# Altium schematic symbol library GaN HEMT.SchLib: 1 symbol
Pins are listed as number, name and electrical type; pins without a type are passive.

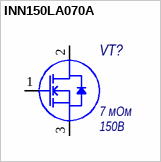
[diagram p0: symbol INN150LA070A]

## INN150LA070A
designator VT?  Vds: 150В  Rdson: 7 мОм  (hidden comment: *)
GaN N-Channel HEMT Low voltage FET; ID: INN150LA070A
footprint FCLGA3.2*2.2 (INN150LA070A)
pins: 1 Gate, 2 Drain (oc), 3 Source (oe)